# EAGLE library part MCP4261 (library HelaTronix - IC Special Functions)
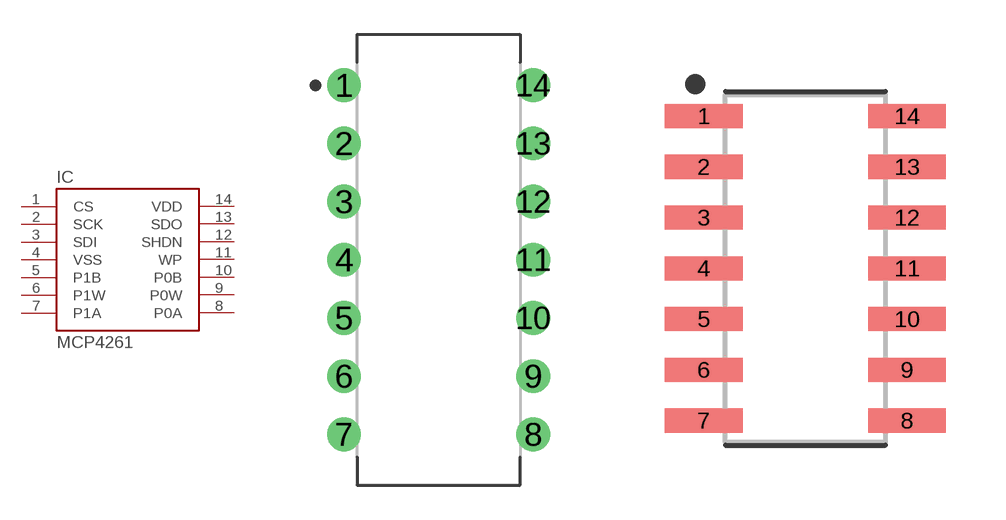
[diagram p0: symbol with the pads of DIP-14; footprints DIP-14, SOIC-14]

Designator prefix IC

## MCP4261  [DIP-14]
1  CS
2  SCK
3  SDI
4  VSS
5  P1B
6  P1W
7  P1A
8  P0A
9  P0W
10  P0B
11  WP
12  SHDN
13  SDO
14  VDD

## MCP4261-SOIC-14  [SOIC-14]
Pads as for DIP-14

## Footprint DIP-14 (pad centres in mm)
14-DIP, 2.54 mm (0.10 in) pitch, 8.26 mm (0.33 in) span, 19.69 X 6.86 X 5.33 mm body 14-pin DIP package with 2.54 mm (0.10 in) pitch, 8.26 mm (0.33 in) span with body size 19.69 X 6.86 X 5.33 mm
drill 0.876 pad 1.476: 1 -4.128,7.62; 2 -4.128,5.08; 3 -4.128,2.54; 4 -4.128,0; 5 -4.128,-2.54; 6 -4.128,-5.08; 7 -4.128,-7.62; 8 4.128,-7.62; 9 4.128,-5.08; 10 4.128,-2.54; 11 4.128,0; 12 4.128,2.54; 13 4.128,5.08; 14 4.128,7.62

## Footprint SOIC-14 (pad centres in mm)
14-SOIC, 1.27 mm pitch, 6.15 mm span, 8.68 X 3.95 X 1.75 mm body 14-pin SOIC package with 1.27 mm pitch, 6.15 mm span with body size 8.68 X 3.95 X 1.75 mm
smd 1.939 x 0.602: 1 -2.541,3.81; 2 -2.541,2.54; 3 -2.541,1.27; 4 -2.541,0; 5 -2.541,-1.27; 6 -2.541,-2.54; 7 -2.541,-3.81; 8 2.541,-3.81; 9 2.541,-2.54; 10 2.541,-1.27; 11 2.541,0; 12 2.541,1.27; 13 2.541,2.54; 14 2.541,3.81